# Altium schematic symbol library DRV8837C.Schlib: 1 symbol
Pins are listed as number, name and electrical type; pins without a type are passive.

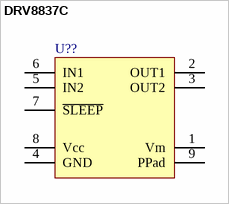
[diagram p0: symbol DRV8837C]

## DRV8837C
designator U??
pins: 1 Vm, 2 OUT1, 3 OUT2, 4 GND, 5 IN2, 6 IN1, 7 ~{SLEEP}, 8 Vcc, 9 PPad